# Altium integrated library ISSI SRAM Synchronous SRAM Flow-Through.IntLib: 689 symbols (part 28 of 79)
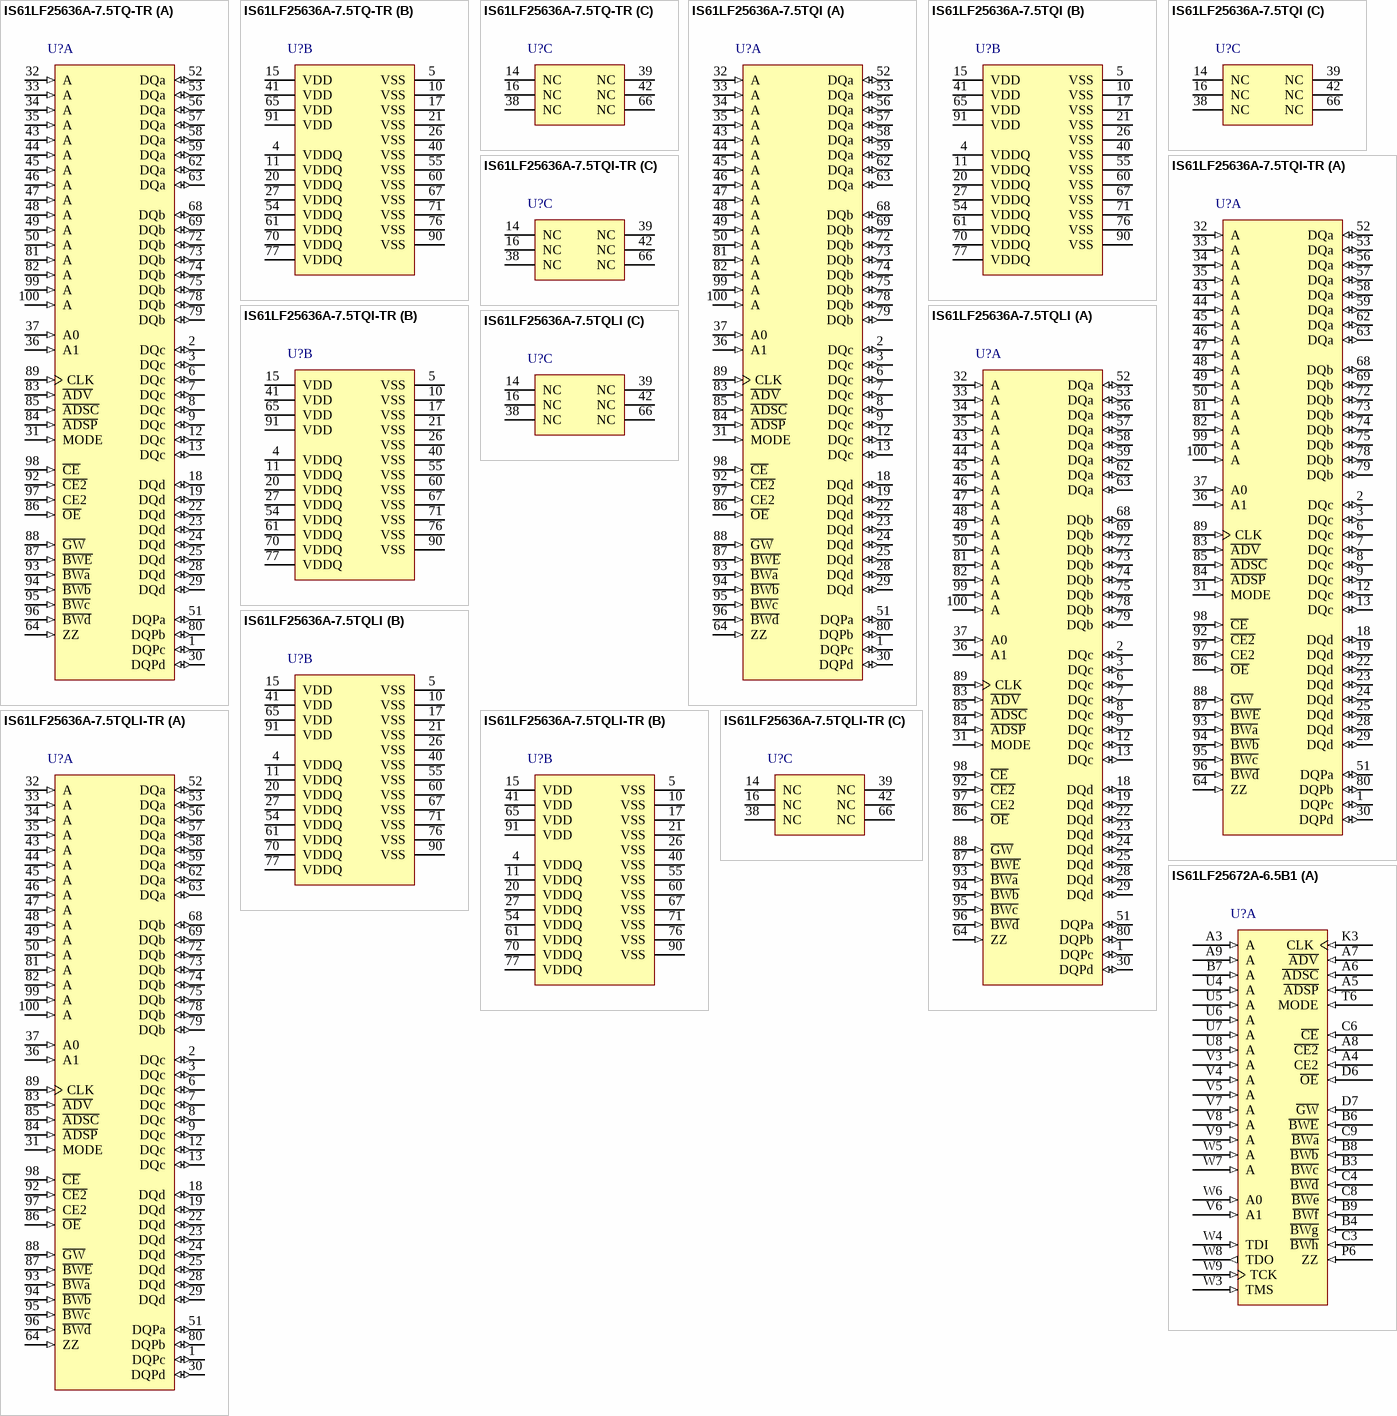
[diagram p162: symbols IS61LF25636A-7.5TQ-TR to IS61LF25672A-6.5B1]

## IS61LF25636A-7.5TQI-TR
designator U?
9 M Synchronous Flow Through SRAM, 256 K x 36, -40 to 85 degC, 100-Pin QFP (TQFP-100); Manufacturer: Integrated Silicon Solution Inc (ISSI); PartNumber: IS61LF25636A-7.5TQI-TR; Density: 9M; Packing: Tape & Reel; Vcc: 3.3 V; VccQ: 2.5 / 3.3 V; DatasheetVersion: Rev. H; PackageVersion: Rev. F, 09/2009; PackageReference: TQFP-100; PackageDescription: 100-Pin 20 x 14 mm LQFP, Pitch 0.65 mm; Supplier 1: Digi-Key; Supplier Part Number 1: IS61LF25636A-7.5TQI-TR-ND; Supplier 2: Mouser; Supplier Part Number 2: 87061LF25636A75TQIT; Organization: 256Kx36; Mounting Technology: Surface Mount; ComponentLink1Description: Manufacturer URL; ComponentLink1URL: http://www.issi.com/US/index.shtml; ComponentLink2Description: Datasheet; ComponentLink2URL: http://www.issi.com/WW/pdf/61VF_LF25636A_51218A.pdf; ComponentLink3Description: Package Specification; ComponentLink3URL: http://www.issi.com/WW/pdf/61VPS_LPS25636A_51218A.pdf
footprint ISSI-TQFP-100-20000X14000DE_N (QFP, 100-Leads, Body 20x14mm, Pitch 0.65mm, IPC Medium Density)
part A pins: 1 DQPc (io) "Parity Data Input/Output", 2 DQc (io) "Synchronous Data Input/Output", 3 DQc (io) "Synchronous Data Input/Output", 6 DQc (io) "Synchronous Data Input/Output", 7 DQc (io) "Synchronous Data Input/Output", 8 DQc (io) "Synchronous Data Input/Output", 9 DQc (io) "Synchronous Data Input/Output", 12 DQc (io) "Synchronous Data Input/Output", 13 DQc (io) "Synchronous Data Input/Output", 18 DQd (io) "Synchronous Data Input/Output", 19 DQd (io) "Synchronous Data Input/Output", 22 DQd (io) "Synchronous Data Input/Output", 23 DQd (io) "Synchronous Data Input/Output", 24 DQd (io) "Synchronous Data Input/Output", 25 DQd (io) "Synchronous Data Input/Output", 28 DQd (io) "Synchronous Data Input/Output", 29 DQd (io) "Synchronous Data Input/Output", 30 DQPd (io) "Parity Data Input/Output", 31 MODE (in) "Burst Sequence Selection", 32 A (in) "Synchronous Address Input", 33 A (in) "Synchronous Address Input", 34 A (in) "Synchronous Address Input", 35 A (in) "Synchronous Address Input", 36 A1 (in) "Synchronous Address Input. These pins must tied to the two LSBs of the address bus", 37 A0 (in) "Synchronous Address Input. These pins must tied to the two LSBs of the address bus", 43 A (in) "Synchronous Address Input", 44 A (in) "Synchronous Address Input", 45 A (in) "Synchronous Address Input", 46 A (in) "Synchronous Address Input", 47 A (in) "Synchronous Address Input", 48 A (in) "Synchronous Address Input", 49 A (in) "Synchronous Address Input", 50 A (in) "Synchronous Address Input", 51 DQPa (io) "Parity Data Input/Output", 52 DQa (io) "Synchronous Data Input/Output", 53 DQa (io) "Synchronous Data Input/Output", 56 DQa (io) "Synchronous Data Input/Output", 57 DQa (io) "Synchronous Data Input/Output", 58 DQa (io) "Synchronous Data Input/Output", 59 DQa (io) "Synchronous Data Input/Output", 62 DQa (io) "Synchronous Data Input/Output", 63 DQa (io) "Synchronous Data Input/Output", 64 ZZ (in) "Snooze Enable", 68 DQb (io) "Synchronous Data Input/Output", 69 DQb (io) "Synchronous Data Input/Output", 72 DQb (io) "Synchronous Data Input/Output", 73 DQb (io) "Synchronous Data Input/Output", 74 DQb (io) "Synchronous Data Input/Output", 75 DQb (io) "Synchronous Data Input/Output", 78 DQb (io) "Synchronous Data Input/Output", 79 DQb (io) "Synchronous Data Input/Output", 80 DQPb (io) "Parity Data Input/Output", 81 A (in) "Synchronous Address Input", 82 A (in) "Synchronous Address Input", 83 ~{ADV} (in) "Synchronous Burst Address Advance", 84 ~{ADSP} (in) "Synchronous Processor Address Status", 85 ~{ADSC} (in) "Synchronous Controller Address Status", 86 ~{OE} (in) "Output Enable", 87 ~{BWE} (in) "Synchronous Byte Write Enable", 88 ~{GW} (in) "Synchronous Global Write Enable", 89 CLK (in) "Synchronous Clock", 92 ~{CE2} (in) "Synchronous Chip Enable", 93 ~{BWa} (in) "Synchronous Byte Write Enable", 94 ~{BWb} (in) "Synchronous Byte Write Enable", 95 ~{BWc} (in) "Synchronous Byte Write Enable", 96 ~{BWd} (in) "Synchronous Byte Write Enable", 97 CE2 (in) "Synchronous Chip Enable", 98 ~{CE} (in) "Synchronous Chip Enable", 99 A (in) "Synchronous Address Input", 100 A (in) "Synchronous Address Input"
part B pins: 4 VDDQ (power) "Isolated Output Buffer Supply: 3.3V/2.5V", 5 VSS (power) "Ground", 10 VSS (power) "Ground", 11 VDDQ (power) "Isolated Output Buffer Supply: 3.3V/2.5V", 15 VDD (power) "3.3V/2.5V Power Supply", 17 VSS (power) "Ground", 20 VDDQ (power) "Isolated Output Buffer Supply: 3.3V/2.5V", 21 VSS (power) "Ground", 26 VSS (power) "Ground", 27 VDDQ (power) "Isolated Output Buffer Supply: 3.3V/2.5V", 40 VSS (power) "Ground", 41 VDD (power) "3.3V/2.5V Power Supply", 54 VDDQ (power) "Isolated Output Buffer Supply: 3.3V/2.5V", 55 VSS (power) "Ground", 60 VSS (power) "Ground", 61 VDDQ (power) "Isolated Output Buffer Supply: 3.3V/2.5V", 65 VDD (power) "3.3V/2.5V Power Supply", 67 VSS (power) "Ground", 70 VDDQ (power) "Isolated Output Buffer Supply: 3.3V/2.5V", 71 VSS (power) "Ground", 76 VSS (power) "Ground", 77 VDDQ (power) "Isolated Output Buffer Supply: 3.3V/2.5V", 90 VSS (power) "Ground", 91 VDD (power) "3.3V/2.5V Power Supply"
part C pins: 14 NC "Not Connected", 16 NC "Not Connected", 38 NC "Not Connected", 39 NC "Not Connected", 42 NC "Not Connected", 66 NC "Not Connected"

## IS61LF25636A-7.5TQLI
designator U?
9 M Synchronous Flow Through SRAM, 256 K x 36, -40 to 85 degC, 100-Pin QFP (TQFP-100), Pb-Free; Manufacturer: Integrated Silicon Solution Inc (ISSI); PartNumber: IS61LF25636A-7.5TQLI; Density: 9M; Packing: Tray / Tube; Vcc: 3.3 V; VccQ: 2.5 / 3.3 V; DatasheetVersion: Rev. H; PackageVersion: Rev. F, 09/2009; PackageReference: TQFP-100; PackageDescription: 100-Pin 20 x 14 mm LQFP, Pitch 0.65 mm; Supplier 1: Digi-Key; Supplier Part Number 1: 706-1093-ND; Supplier 2: Newark; Supplier Part Number 2: 43M5077; Supplier 3: Mouser; Supplier Part Number 3: 87061LF25636A75TQLI; Organization: 256Kx36; RoHS: Pb-Free; Mounting Technology: Surface Mount; ComponentLink1Description: Manufacturer URL; ComponentLink1URL: http://www.issi.com/US/index.shtml; ComponentLink2Description: Datasheet; ComponentLink2URL: http://www.issi.com/WW/pdf/61VF_LF25636A_51218A.pdf; ComponentLink3Description: Package Specification; ComponentLink3URL: http://www.issi.com/WW/pdf/61VPS_LPS25636A_51218A.pdf
footprint ISSI-TQFP-100-20000X14000DE_N (QFP, 100-Leads, Body 20x14mm, Pitch 0.65mm, IPC Medium Density)
part A pins: 1 DQPc (io) "Parity Data Input/Output", 2 DQc (io) "Synchronous Data Input/Output", 3 DQc (io) "Synchronous Data Input/Output", 6 DQc (io) "Synchronous Data Input/Output", 7 DQc (io) "Synchronous Data Input/Output", 8 DQc (io) "Synchronous Data Input/Output", 9 DQc (io) "Synchronous Data Input/Output", 12 DQc (io) "Synchronous Data Input/Output", 13 DQc (io) "Synchronous Data Input/Output", 18 DQd (io) "Synchronous Data Input/Output", 19 DQd (io) "Synchronous Data Input/Output", 22 DQd (io) "Synchronous Data Input/Output", 23 DQd (io) "Synchronous Data Input/Output", 24 DQd (io) "Synchronous Data Input/Output", 25 DQd (io) "Synchronous Data Input/Output", 28 DQd (io) "Synchronous Data Input/Output", 29 DQd (io) "Synchronous Data Input/Output", 30 DQPd (io) "Parity Data Input/Output", 31 MODE (in) "Burst Sequence Selection", 32 A (in) "Synchronous Address Input", 33 A (in) "Synchronous Address Input", 34 A (in) "Synchronous Address Input", 35 A (in) "Synchronous Address Input", 36 A1 (in) "Synchronous Address Input. These pins must tied to the two LSBs of the address bus", 37 A0 (in) "Synchronous Address Input. These pins must tied to the two LSBs of the address bus", 43 A (in) "Synchronous Address Input", 44 A (in) "Synchronous Address Input", 45 A (in) "Synchronous Address Input", 46 A (in) "Synchronous Address Input", 47 A (in) "Synchronous Address Input", 48 A (in) "Synchronous Address Input", 49 A (in) "Synchronous Address Input", 50 A (in) "Synchronous Address Input", 51 DQPa (io) "Parity Data Input/Output", 52 DQa (io) "Synchronous Data Input/Output", 53 DQa (io) "Synchronous Data Input/Output", 56 DQa (io) "Synchronous Data Input/Output", 57 DQa (io) "Synchronous Data Input/Output", 58 DQa (io) "Synchronous Data Input/Output", 59 DQa (io) "Synchronous Data Input/Output", 62 DQa (io) "Synchronous Data Input/Output", 63 DQa (io) "Synchronous Data Input/Output", 64 ZZ (in) "Snooze Enable", 68 DQb (io) "Synchronous Data Input/Output", 69 DQb (io) "Synchronous Data Input/Output", 72 DQb (io) "Synchronous Data Input/Output", 73 DQb (io) "Synchronous Data Input/Output", 74 DQb (io) "Synchronous Data Input/Output", 75 DQb (io) "Synchronous Data Input/Output", 78 DQb (io) "Synchronous Data Input/Output", 79 DQb (io) "Synchronous Data Input/Output", 80 DQPb (io) "Parity Data Input/Output", 81 A (in) "Synchronous Address Input", 82 A (in) "Synchronous Address Input", 83 ~{ADV} (in) "Synchronous Burst Address Advance", 84 ~{ADSP} (in) "Synchronous Processor Address Status", 85 ~{ADSC} (in) "Synchronous Controller Address Status", 86 ~{OE} (in) "Output Enable", 87 ~{BWE} (in) "Synchronous Byte Write Enable", 88 ~{GW} (in) "Synchronous Global Write Enable", 89 CLK (in) "Synchronous Clock", 92 ~{CE2} (in) "Synchronous Chip Enable", 93 ~{BWa} (in) "Synchronous Byte Write Enable", 94 ~{BWb} (in) "Synchronous Byte Write Enable", 95 ~{BWc} (in) "Synchronous Byte Write Enable", 96 ~{BWd} (in) "Synchronous Byte Write Enable", 97 CE2 (in) "Synchronous Chip Enable", 98 ~{CE} (in) "Synchronous Chip Enable", 99 A (in) "Synchronous Address Input", 100 A (in) "Synchronous Address Input"
part B pins: 4 VDDQ (power) "Isolated Output Buffer Supply: 3.3V/2.5V", 5 VSS (power) "Ground", 10 VSS (power) "Ground", 11 VDDQ (power) "Isolated Output Buffer Supply: 3.3V/2.5V", 15 VDD (power) "3.3V/2.5V Power Supply", 17 VSS (power) "Ground", 20 VDDQ (power) "Isolated Output Buffer Supply: 3.3V/2.5V", 21 VSS (power) "Ground", 26 VSS (power) "Ground", 27 VDDQ (power) "Isolated Output Buffer Supply: 3.3V/2.5V", 40 VSS (power) "Ground", 41 VDD (power) "3.3V/2.5V Power Supply", 54 VDDQ (power) "Isolated Output Buffer Supply: 3.3V/2.5V", 55 VSS (power) "Ground", 60 VSS (power) "Ground", 61 VDDQ (power) "Isolated Output Buffer Supply: 3.3V/2.5V", 65 VDD (power) "3.3V/2.5V Power Supply", 67 VSS (power) "Ground", 70 VDDQ (power) "Isolated Output Buffer Supply: 3.3V/2.5V", 71 VSS (power) "Ground", 76 VSS (power) "Ground", 77 VDDQ (power) "Isolated Output Buffer Supply: 3.3V/2.5V", 90 VSS (power) "Ground", 91 VDD (power) "3.3V/2.5V Power Supply"
part C pins: 14 NC "Not Connected", 16 NC "Not Connected", 38 NC "Not Connected", 39 NC "Not Connected", 42 NC "Not Connected", 66 NC "Not Connected"

## IS61LF25636A-7.5TQLI-TR
designator U?
9 M Synchronous Flow Through SRAM, 256 K x 36, -40 to 85 degC, 100-Pin QFP (TQFP-100), Pb-Free; Manufacturer: Integrated Silicon Solution Inc (ISSI); PartNumber: IS61LF25636A-7.5TQLI-TR; Density: 9M; Packing: Tape & Reel; Vcc: 3.3 V; VccQ: 2.5 / 3.3 V; DatasheetVersion: Rev. H; PackageVersion: Rev. F, 09/2009; PackageReference: TQFP-100; PackageDescription: 100-Pin 20 x 14 mm LQFP, Pitch 0.65 mm; Supplier 1: Digi-Key; Supplier Part Number 1: IS61LF25636A-7.5TQLI-TR-ND; Supplier 2: Mouser; Supplier Part Number 2: 87061LF25636A75TQLIT; Organization: 256Kx36; RoHS: Pb-Free; Mounting Technology: Surface Mount; ComponentLink1Description: Manufacturer URL; ComponentLink1URL: http://www.issi.com/US/index.shtml; ComponentLink2Description: Datasheet; ComponentLink2URL: http://www.issi.com/WW/pdf/61VF_LF25636A_51218A.pdf; ComponentLink3Description: Package Specification; ComponentLink3URL: http://www.issi.com/WW/pdf/61VPS_LPS25636A_51218A.pdf
footprint ISSI-TQFP-100-20000X14000DE_N (QFP, 100-Leads, Body 20x14mm, Pitch 0.65mm, IPC Medium Density)
part A pins: 1 DQPc (io) "Parity Data Input/Output", 2 DQc (io) "Synchronous Data Input/Output", 3 DQc (io) "Synchronous Data Input/Output", 6 DQc (io) "Synchronous Data Input/Output", 7 DQc (io) "Synchronous Data Input/Output", 8 DQc (io) "Synchronous Data Input/Output", 9 DQc (io) "Synchronous Data Input/Output", 12 DQc (io) "Synchronous Data Input/Output", 13 DQc (io) "Synchronous Data Input/Output", 18 DQd (io) "Synchronous Data Input/Output", 19 DQd (io) "Synchronous Data Input/Output", 22 DQd (io) "Synchronous Data Input/Output", 23 DQd (io) "Synchronous Data Input/Output", 24 DQd (io) "Synchronous Data Input/Output", 25 DQd (io) "Synchronous Data Input/Output", 28 DQd (io) "Synchronous Data Input/Output", 29 DQd (io) "Synchronous Data Input/Output", 30 DQPd (io) "Parity Data Input/Output", 31 MODE (in) "Burst Sequence Selection", 32 A (in) "Synchronous Address Input", 33 A (in) "Synchronous Address Input", 34 A (in) "Synchronous Address Input", 35 A (in) "Synchronous Address Input", 36 A1 (in) "Synchronous Address Input. These pins must tied to the two LSBs of the address bus", 37 A0 (in) "Synchronous Address Input. These pins must tied to the two LSBs of the address bus", 43 A (in) "Synchronous Address Input", 44 A (in) "Synchronous Address Input", 45 A (in) "Synchronous Address Input", 46 A (in) "Synchronous Address Input", 47 A (in) "Synchronous Address Input", 48 A (in) "Synchronous Address Input", 49 A (in) "Synchronous Address Input", 50 A (in) "Synchronous Address Input", 51 DQPa (io) "Parity Data Input/Output", 52 DQa (io) "Synchronous Data Input/Output", 53 DQa (io) "Synchronous Data Input/Output", 56 DQa (io) "Synchronous Data Input/Output", 57 DQa (io) "Synchronous Data Input/Output", 58 DQa (io) "Synchronous Data Input/Output", 59 DQa (io) "Synchronous Data Input/Output", 62 DQa (io) "Synchronous Data Input/Output", 63 DQa (io) "Synchronous Data Input/Output", 64 ZZ (in) "Snooze Enable", 68 DQb (io) "Synchronous Data Input/Output", 69 DQb (io) "Synchronous Data Input/Output", 72 DQb (io) "Synchronous Data Input/Output", 73 DQb (io) "Synchronous Data Input/Output", 74 DQb (io) "Synchronous Data Input/Output", 75 DQb (io) "Synchronous Data Input/Output", 78 DQb (io) "Synchronous Data Input/Output", 79 DQb (io) "Synchronous Data Input/Output", 80 DQPb (io) "Parity Data Input/Output", 81 A (in) "Synchronous Address Input", 82 A (in) "Synchronous Address Input", 83 ~{ADV} (in) "Synchronous Burst Address Advance", 84 ~{ADSP} (in) "Synchronous Processor Address Status", 85 ~{ADSC} (in) "Synchronous Controller Address Status", 86 ~{OE} (in) "Output Enable", 87 ~{BWE} (in) "Synchronous Byte Write Enable", 88 ~{GW} (in) "Synchronous Global Write Enable", 89 CLK (in) "Synchronous Clock", 92 ~{CE2} (in) "Synchronous Chip Enable", 93 ~{BWa} (in) "Synchronous Byte Write Enable", 94 ~{BWb} (in) "Synchronous Byte Write Enable", 95 ~{BWc} (in) "Synchronous Byte Write Enable", 96 ~{BWd} (in) "Synchronous Byte Write Enable", 97 CE2 (in) "Synchronous Chip Enable", 98 ~{CE} (in) "Synchronous Chip Enable", 99 A (in) "Synchronous Address Input", 100 A (in) "Synchronous Address Input"
part B pins: 4 VDDQ (power) "Isolated Output Buffer Supply: 3.3V/2.5V", 5 VSS (power) "Ground", 10 VSS (power) "Ground", 11 VDDQ (power) "Isolated Output Buffer Supply: 3.3V/2.5V", 15 VDD (power) "3.3V/2.5V Power Supply", 17 VSS (power) "Ground", 20 VDDQ (power) "Isolated Output Buffer Supply: 3.3V/2.5V", 21 VSS (power) "Ground", 26 VSS (power) "Ground", 27 VDDQ (power) "Isolated Output Buffer Supply: 3.3V/2.5V", 40 VSS (power) "Ground", 41 VDD (power) "3.3V/2.5V Power Supply", 54 VDDQ (power) "Isolated Output Buffer Supply: 3.3V/2.5V", 55 VSS (power) "Ground", 60 VSS (power) "Ground", 61 VDDQ (power) "Isolated Output Buffer Supply: 3.3V/2.5V", 65 VDD (power) "3.3V/2.5V Power Supply", 67 VSS (power) "Ground", 70 VDDQ (power) "Isolated Output Buffer Supply: 3.3V/2.5V", 71 VSS (power) "Ground", 76 VSS (power) "Ground", 77 VDDQ (power) "Isolated Output Buffer Supply: 3.3V/2.5V", 90 VSS (power) "Ground", 91 VDD (power) "3.3V/2.5V Power Supply"
part C pins: 14 NC "Not Connected", 16 NC "Not Connected", 38 NC "Not Connected", 39 NC "Not Connected", 42 NC "Not Connected", 66 NC "Not Connected"

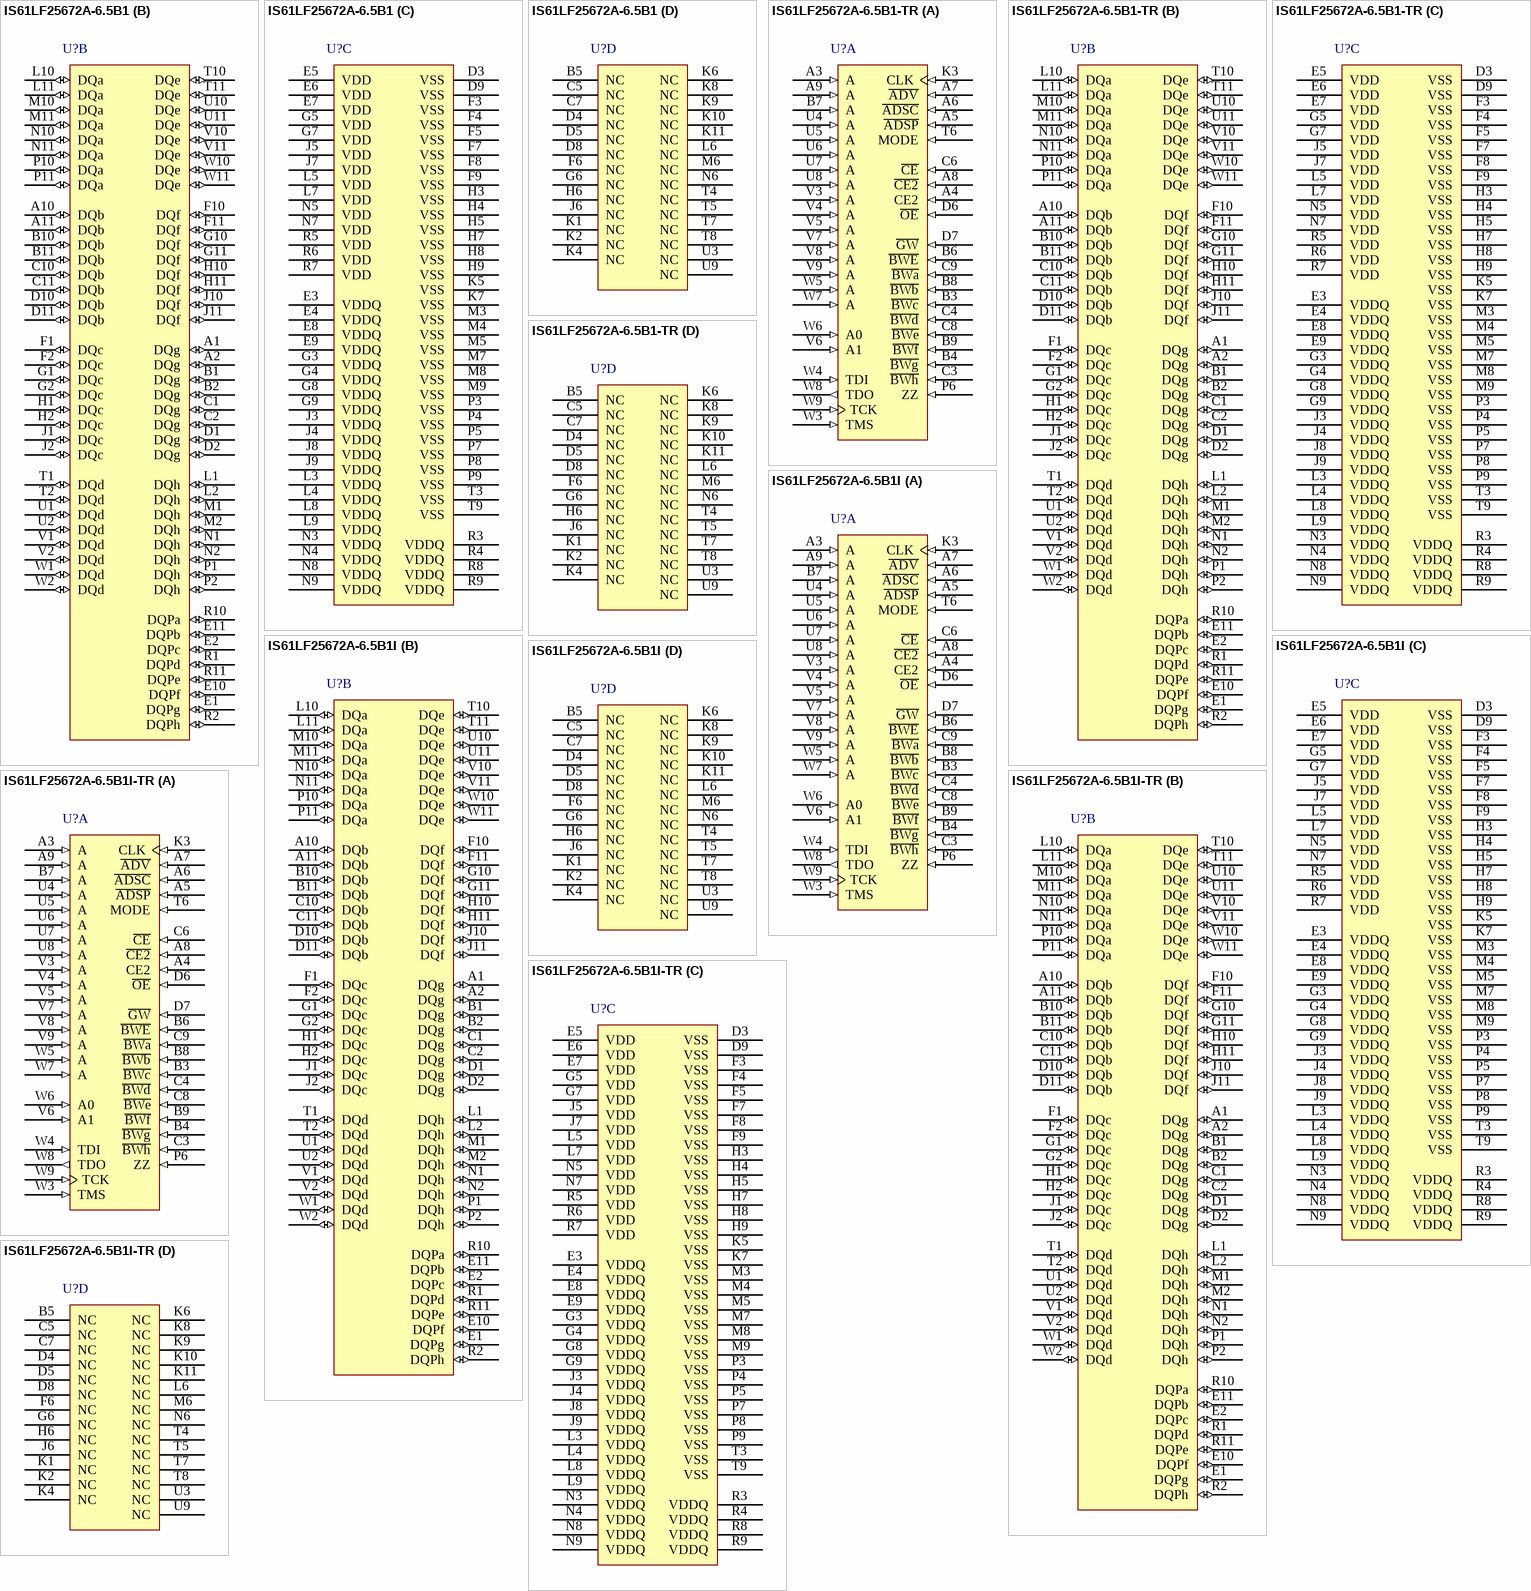
[diagram p48: symbols IS61LF25672A-6.5B1 to IS61LF25672A-6.5B1I-TR]

## IS61LF25672A-6.5B1
designator U?
18 M Synchronous Flow Through SRAM, 256 K x 72, 0 to 70 degC, 209-Pin BGA (LF-BGA-209); Manufacturer: Integrated Silicon Solution Inc (ISSI); PartNumber: IS61LF25672A-6.5B1; Density: 18M; Packing: Tray / Tube; Vcc: 3.3 V; VccQ: 2.5 / 3.3 V; DatasheetVersion: Rev. K; PackageVersion: Rev. B, 12/2007; PackageReference: LF-BGA-209; PackageDescription: 209-Pin 14 x 22 mm LF-BGA, Pitch 1 mm; Organization: 256Kx72; Mounting Technology: Surface Mount; ComponentLink1Description: Manufacturer URL; ComponentLink1URL: http://www.issi.com/US/index.shtml; ComponentLink2Description: Datasheet; ComponentLink2URL: http://www.issi.com/WW/pdf/61VF_LF25672A_51236A_102418A.pdf; ComponentLink3Description: Package Specification; ComponentLink3URL: http://www.issi.com/WW/pdf/61NLF_NVF25672_51236_102418.pdf
footprint ISSI-LF-BGA-209-14000X22000DE (BGA, 209-Balls, Body 22x14mm, Pitch 1mm)
part A pins: A3 A (in) "Address Input", A4 CE2 (in) "Synchronous Chip Select", A5 ~{ADSP} (in) "Address Status Processor", A6 ~{ADSC} (in) "Address Status Controller", A7 ~{ADV} (in) "Synchronous Burst Address Advance", A8 ~{CE2} (in) "Synchronous Chip Select", A9 A (in) "Address Input", B3 ~{BWc} (in) "Synchronous Byte Write Control", B4 ~{BWg} (in) "Synchronous Byte Write Control", B6 ~{BWE} (in) "Byte Write Enable", B7 A (in) "Address Input", B8 ~{BWb} (in) "Synchronous Byte Write Control", B9 ~{BWf} (in) "Synchronous Byte Write Control", C3 ~{BWh} (in) "Synchronous Byte Write Control", C4 ~{BWd} (in) "Synchronous Byte Write Control", C6 ~{CE} (in) "Synchronous Chip Select", C8 ~{BWe} (in) "Synchronous Byte Write Control", C9 ~{BWa} (in) "Synchronous Byte Write Control", D6 ~{OE} (in) "Output Enable", D7 ~{GW} (in) "Global Write Enable", K3 CLK (in) "Synchronous Clock", P6 ZZ (in) "Power Sleep Mode", T6 MODE (in) "Burst Sequence Selection", U4 A (in) "Address Input", U5 A (in) "Address Input", U6 A (in) "Address Input", U7 A (in) "Address Input", U8 A (in) "Address Input", V3 A (in) "Address Input", V4 A (in) "Address Input", V5 A (in) "Address Input", V6 A1 (in) "Synchronous Burst Address Input", V7 A (in) "Address Input", V8 A (in) "Address Input", V9 A (in) "Address Input", W3 TMS (in) "JTAG Pin", W4 TDI (in) "JTAG Pin", W5 A (in) "Address Input", W6 A0 (in) "Synchronous Burst Address Input", W7 A (in) "Address Input", W8 TDO (out) "JTAG Pin", W9 TCK (in) "JTAG Pin"
part B pins: A1 DQg (io) "Data Input/Output", A2 DQg (io) "Data Input/Output", A10 DQb (io) "Data Input/Output", A11 DQb (io) "Data Input/Output", B1 DQg (io) "Data Input/Output", B2 DQg (io) "Data Input/Output", B10 DQb (io) "Data Input/Output", B11 DQb (io) "Data Input/Output", C1 DQg (io) "Data Input/Output", C2 DQg (io) "Data Input/Output", C10 DQb (io) "Data Input/Output", C11 DQb (io) "Data Input/Output", D1 DQg (io) "Data Input/Output", D2 DQg (io) "Data Input/Output", D10 DQb (io) "Data Input/Output", D11 DQb (io) "Data Input/Output", E1 DQPg (io) "Data Input/Output", E2 DQPc (io) "Data Input/Output", E10 DQPf (io) "Data Input/Output", E11 DQPb (io) "Data Input/Output", F1 DQc (io) "Data Input/Output", F2 DQc (io) "Data Input/Output", F10 DQf (io) "Data Input/Output", F11 DQf (io) "Data Input/Output", G1 DQc (io) "Data Input/Output", G2 DQc (io) "Data Input/Output", G10 DQf (io) "Data Input/Output", G11 DQf (io) "Data Input/Output", H1 DQc (io) "Data Input/Output", H2 DQc (io) "Data Input/Output", H10 DQf (io) "Data Input/Output", H11 DQf (io) "Data Input/Output", J1 DQc (io) "Data Input/Output", J2 DQc (io) "Data Input/Output", J10 DQf (io) "Data Input/Output", J11 DQf (io) "Data Input/Output", L1 DQh (io) "Data Input/Output", L2 DQh (io) "Data Input/Output", L10 DQa (io) "Data Input/Output", L11 DQa (io) "Data Input/Output", M1 DQh (io) "Data Input/Output", M2 DQh (io) "Data Input/Output", M10 DQa (io) "Data Input/Output", M11 DQa (io) "Data Input/Output", N1 DQh (io) "Data Input/Output", N2 DQh (io) "Data Input/Output", N10 DQa (io) "Data Input/Output", N11 DQa (io) "Data Input/Output", P1 DQh (io) "Data Input/Output", P2 DQh (io) "Data Input/Output", P10 DQa (io) "Data Input/Output", P11 DQa (io) "Data Input/Output", R1 DQPd (io) "Data Input/Output", R2 DQPh (io) "Data Input/Output", R10 DQPa (io) "Data Input/Output", R11 DQPe (io) "Data Input/Output", T1 DQd (io) "Data Input/Output", T2 DQd (io) "Data Input/Output", T10 DQe (io) "Data Input/Output", T11 DQe (io) "Data Input/Output", U1 DQd (io) "Data Input/Output", U2 DQd (io) "Data Input/Output", U10 DQe (io) "Data Input/Output", U11 DQe (io) "Data Input/Output", V1 DQd (io) "Data Input/Output", V2 DQd (io) "Data Input/Output", V10 DQe (io) "Data Input/Output", V11 DQe (io) "Data Input/Output", W1 DQd (io) "Data Input/Output", W2 DQd (io) "Data Input/Output", W10 DQe (io) "Data Input/Output", W11 DQe (io) "Data Input/Output"
part C pins: D3 VSS (power) "Ground", D9 VSS (power) "Ground", E3 VDDQ (power) "Isolated Output Power Supply 3.3V/2.5V", E4 VDDQ (power) "Isolated Output Power Supply 3.3V/2.5V", E5 VDD (power) "3.3V/2.5V Power Supply", E6 VDD (power) "3.3V/2.5V Power Supply", E7 VDD (power) "3.3V/2.5V Power Supply", E8 VDDQ (power) "Isolated Output Power Supply 3.3V/2.5V", E9 VDDQ (power) "Isolated Output Power Supply 3.3V/2.5V", F3 VSS (power) "Ground", F4 VSS (power) "Ground", F5 VSS (power) "Ground", F7 VSS (power) "Ground", F8 VSS (power) "Ground", F9 VSS (power) "Ground", G3 VDDQ (power) "Isolated Output Power Supply 3.3V/2.5V", G4 VDDQ (power) "Isolated Output Power Supply 3.3V/2.5V", G5 VDD (power) "3.3V/2.5V Power Supply", G7 VDD (power) "3.3V/2.5V Power Supply", G8 VDDQ (power) "Isolated Output Power Supply 3.3V/2.5V", G9 VDDQ (power) "Isolated Output Power Supply 3.3V/2.5V", H3 VSS (power) "Ground", H4 VSS (power) "Ground", H5 VSS (power) "Ground", H7 VSS (power) "Ground", H8 VSS (power) "Ground", H9 VSS (power) "Ground", J3 VDDQ (power) "Isolated Output Power Supply 3.3V/2.5V", J4 VDDQ (power) "Isolated Output Power Supply 3.3V/2.5V", J5 VDD (power) "3.3V/2.5V Power Supply", J7 VDD (power) "3.3V/2.5V Power Supply", J8 VDDQ (power) "Isolated Output Power Supply 3.3V/2.5V", J9 VDDQ (power) "Isolated Output Power Supply 3.3V/2.5V", K5 VSS (power) "Ground", K7 VSS (power) "Ground", L3 VDDQ (power) "Isolated Output Power Supply 3.3V/2.5V", L4 VDDQ (power) "Isolated Output Power Supply 3.3V/2.5V", L5 VDD (power) "3.3V/2.5V Power Supply", L7 VDD (power) "3.3V/2.5V Power Supply", L8 VDDQ (power) "Isolated Output Power Supply 3.3V/2.5V", L9 VDDQ (power) "Isolated Output Power Supply 3.3V/2.5V", M3 VSS (power) "Ground", M4 VSS (power) "Ground", M5 VSS (power) "Ground", M7 VSS (power) "Ground", M8 VSS (power) "Ground", M9 VSS (power) "Ground", N3 VDDQ (power) "Isolated Output Power Supply 3.3V/2.5V", N4 VDDQ (power) "Isolated Output Power Supply 3.3V/2.5V", N5 VDD (power) "3.3V/2.5V Power Supply", N7 VDD (power) "3.3V/2.5V Power Supply", N8 VDDQ (power) "Isolated Output Power Supply 3.3V/2.5V", N9 VDDQ (power) "Isolated Output Power Supply 3.3V/2.5V", P3 VSS (power) "Ground", P4 VSS (power) "Ground", P5 VSS (power) "Ground", P7 VSS (power) "Ground", P8 VSS (power) "Ground", P9 VSS (power) "Ground", R3 VDDQ (power) "Isolated Output Power Supply 3.3V/2.5V", R4 VDDQ (power) "Isolated Output Power Supply 3.3V/2.5V", R5 VDD (power) "3.3V/2.5V Power Supply", R6 VDD (power) "3.3V/2.5V Power Supply", R7 VDD (power) "3.3V/2.5V Power Supply", R8 VDDQ (power) "Isolated Output Power Supply 3.3V/2.5V", R9 VDDQ (power) "Isolated Output Power Supply 3.3V/2.5V", T3 VSS (power) "Ground", T9 VSS (power) "Ground"
part D pins: B5 NC "No Connect", C5 NC "No Connect", C7 NC "No Connect", D4 NC "No Connect", D5 NC "No Connect", D8 NC "No Connect", F6 NC "No Connect", G6 NC "No Connect", H6 NC "No Connect", J6 NC "No Connect", K1 NC "No Connect", K2 NC "No Connect", K4 NC "No Connect", K6 NC "No Connect", K8 NC "No Connect", K9 NC "No Connect", K10 NC "No Connect", K11 NC "No Connect", L6 NC "No Connect", M6 NC "No Connect", N6 NC "No Connect", T4 NC "No Connect", T5 NC "No Connect", T7 NC "No Connect", T8 NC "No Connect", U3 NC "No Connect", U9 NC "No Connect"

## IS61LF25672A-6.5B1-TR
designator U?
18 M Synchronous Flow Through SRAM, 256 K x 72, 0 to 70 degC, 209-Pin BGA (LF-BGA-209); Manufacturer: Integrated Silicon Solution Inc (ISSI); PartNumber: IS61LF25672A-6.5B1-TR; Density: 18M; Packing: Tape & Reel; Vcc: 3.3 V; VccQ: 2.5 / 3.3 V; DatasheetVersion: Rev. K; PackageVersion: Rev. B, 12/2007; PackageReference: LF-BGA-209; PackageDescription: 209-Pin 14 x 22 mm LF-BGA, Pitch 1 mm; Organization: 256Kx72; Mounting Technology: Surface Mount; ComponentLink1Description: Manufacturer URL; ComponentLink1URL: http://www.issi.com/US/index.shtml; ComponentLink2Description: Datasheet; ComponentLink2URL: http://www.issi.com/WW/pdf/61VF_LF25672A_51236A_102418A.pdf; ComponentLink3Description: Package Specification; ComponentLink3URL: http://www.issi.com/WW/pdf/61NLF_NVF25672_51236_102418.pdf
footprint ISSI-LF-BGA-209-14000X22000DE (BGA, 209-Balls, Body 22x14mm, Pitch 1mm)
part A pins: A3 A (in) "Address Input", A4 CE2 (in) "Synchronous Chip Select", A5 ~{ADSP} (in) "Address Status Processor", A6 ~{ADSC} (in) "Address Status Controller", A7 ~{ADV} (in) "Synchronous Burst Address Advance", A8 ~{CE2} (in) "Synchronous Chip Select", A9 A (in) "Address Input", B3 ~{BWc} (in) "Synchronous Byte Write Control", B4 ~{BWg} (in) "Synchronous Byte Write Control", B6 ~{BWE} (in) "Byte Write Enable", B7 A (in) "Address Input", B8 ~{BWb} (in) "Synchronous Byte Write Control", B9 ~{BWf} (in) "Synchronous Byte Write Control", C3 ~{BWh} (in) "Synchronous Byte Write Control", C4 ~{BWd} (in) "Synchronous Byte Write Control", C6 ~{CE} (in) "Synchronous Chip Select", C8 ~{BWe} (in) "Synchronous Byte Write Control", C9 ~{BWa} (in) "Synchronous Byte Write Control", D6 ~{OE} (in) "Output Enable", D7 ~{GW} (in) "Global Write Enable", K3 CLK (in) "Synchronous Clock", P6 ZZ (in) "Power Sleep Mode", T6 MODE (in) "Burst Sequence Selection", U4 A (in) "Address Input", U5 A (in) "Address Input", U6 A (in) "Address Input", U7 A (in) "Address Input", U8 A (in) "Address Input", V3 A (in) "Address Input", V4 A (in) "Address Input", V5 A (in) "Address Input", V6 A1 (in) "Synchronous Burst Address Input", V7 A (in) "Address Input", V8 A (in) "Address Input", V9 A (in) "Address Input", W3 TMS (in) "JTAG Pin", W4 TDI (in) "JTAG Pin", W5 A (in) "Address Input", W6 A0 (in) "Synchronous Burst Address Input", W7 A (in) "Address Input", W8 TDO (out) "JTAG Pin", W9 TCK (in) "JTAG Pin"
part B pins: A1 DQg (io) "Data Input/Output", A2 DQg (io) "Data Input/Output", A10 DQb (io) "Data Input/Output", A11 DQb (io) "Data Input/Output", B1 DQg (io) "Data Input/Output", B2 DQg (io) "Data Input/Output", B10 DQb (io) "Data Input/Output", B11 DQb (io) "Data Input/Output", C1 DQg (io) "Data Input/Output", C2 DQg (io) "Data Input/Output", C10 DQb (io) "Data Input/Output", C11 DQb (io) "Data Input/Output", D1 DQg (io) "Data Input/Output", D2 DQg (io) "Data Input/Output", D10 DQb (io) "Data Input/Output", D11 DQb (io) "Data Input/Output", E1 DQPg (io) "Data Input/Output", E2 DQPc (io) "Data Input/Output", E10 DQPf (io) "Data Input/Output", E11 DQPb (io) "Data Input/Output", F1 DQc (io) "Data Input/Output", F2 DQc (io) "Data Input/Output", F10 DQf (io) "Data Input/Output", F11 DQf (io) "Data Input/Output", G1 DQc (io) "Data Input/Output", G2 DQc (io) "Data Input/Output", G10 DQf (io) "Data Input/Output", G11 DQf (io) "Data Input/Output", H1 DQc (io) "Data Input/Output", H2 DQc (io) "Data Input/Output", H10 DQf (io) "Data Input/Output", H11 DQf (io) "Data Input/Output", J1 DQc (io) "Data Input/Output", J2 DQc (io) "Data Input/Output", J10 DQf (io) "Data Input/Output", J11 DQf (io) "Data Input/Output", L1 DQh (io) "Data Input/Output", L2 DQh (io) "Data Input/Output", L10 DQa (io) "Data Input/Output", L11 DQa (io) "Data Input/Output", M1 DQh (io) "Data Input/Output", M2 DQh (io) "Data Input/Output", M10 DQa (io) "Data Input/Output", M11 DQa (io) "Data Input/Output", N1 DQh (io) "Data Input/Output", N2 DQh (io) "Data Input/Output", N10 DQa (io) "Data Input/Output", N11 DQa (io) "Data Input/Output", P1 DQh (io) "Data Input/Output", P2 DQh (io) "Data Input/Output", P10 DQa (io) "Data Input/Output", P11 DQa (io) "Data Input/Output", R1 DQPd (io) "Data Input/Output", R2 DQPh (io) "Data Input/Output", R10 DQPa (io) "Data Input/Output", R11 DQPe (io) "Data Input/Output", T1 DQd (io) "Data Input/Output", T2 DQd (io) "Data Input/Output", T10 DQe (io) "Data Input/Output", T11 DQe (io) "Data Input/Output", U1 DQd (io) "Data Input/Output", U2 DQd (io) "Data Input/Output", U10 DQe (io) "Data Input/Output", U11 DQe (io) "Data Input/Output", V1 DQd (io) "Data Input/Output", V2 DQd (io) "Data Input/Output", V10 DQe (io) "Data Input/Output", V11 DQe (io) "Data Input/Output", W1 DQd (io) "Data Input/Output", W2 DQd (io) "Data Input/Output", W10 DQe (io) "Data Input/Output", W11 DQe (io) "Data Input/Output"
part C pins: D3 VSS (power) "Ground", D9 VSS (power) "Ground", E3 VDDQ (power) "Isolated Output Power Supply 3.3V/2.5V", E4 VDDQ (power) "Isolated Output Power Supply 3.3V/2.5V", E5 VDD (power) "3.3V/2.5V Power Supply", E6 VDD (power) "3.3V/2.5V Power Supply", E7 VDD (power) "3.3V/2.5V Power Supply", E8 VDDQ (power) "Isolated Output Power Supply 3.3V/2.5V", E9 VDDQ (power) "Isolated Output Power Supply 3.3V/2.5V", F3 VSS (power) "Ground", F4 VSS (power) "Ground", F5 VSS (power) "Ground", F7 VSS (power) "Ground", F8 VSS (power) "Ground", F9 VSS (power) "Ground", G3 VDDQ (power) "Isolated Output Power Supply 3.3V/2.5V", G4 VDDQ (power) "Isolated Output Power Supply 3.3V/2.5V", G5 VDD (power) "3.3V/2.5V Power Supply", G7 VDD (power) "3.3V/2.5V Power Supply", G8 VDDQ (power) "Isolated Output Power Supply 3.3V/2.5V", G9 VDDQ (power) "Isolated Output Power Supply 3.3V/2.5V", H3 VSS (power) "Ground", H4 VSS (power) "Ground", H5 VSS (power) "Ground", H7 VSS (power) "Ground", H8 VSS (power) "Ground", H9 VSS (power) "Ground", J3 VDDQ (power) "Isolated Output Power Supply 3.3V/2.5V", J4 VDDQ (power) "Isolated Output Power Supply 3.3V/2.5V", J5 VDD (power) "3.3V/2.5V Power Supply", J7 VDD (power) "3.3V/2.5V Power Supply", J8 VDDQ (power) "Isolated Output Power Supply 3.3V/2.5V", J9 VDDQ (power) "Isolated Output Power Supply 3.3V/2.5V", K5 VSS (power) "Ground", K7 VSS (power) "Ground", L3 VDDQ (power) "Isolated Output Power Supply 3.3V/2.5V", L4 VDDQ (power) "Isolated Output Power Supply 3.3V/2.5V", L5 VDD (power) "3.3V/2.5V Power Supply", L7 VDD (power) "3.3V/2.5V Power Supply", L8 VDDQ (power) "Isolated Output Power Supply 3.3V/2.5V", L9 VDDQ (power) "Isolated Output Power Supply 3.3V/2.5V", M3 VSS (power) "Ground", M4 VSS (power) "Ground", M5 VSS (power) "Ground", M7 VSS (power) "Ground", M8 VSS (power) "Ground", M9 VSS (power) "Ground", N3 VDDQ (power) "Isolated Output Power Supply 3.3V/2.5V", N4 VDDQ (power) "Isolated Output Power Supply 3.3V/2.5V", N5 VDD (power) "3.3V/2.5V Power Supply", N7 VDD (power) "3.3V/2.5V Power Supply", N8 VDDQ (power) "Isolated Output Power Supply 3.3V/2.5V", N9 VDDQ (power) "Isolated Output Power Supply 3.3V/2.5V", P3 VSS (power) "Ground", P4 VSS (power) "Ground", P5 VSS (power) "Ground", P7 VSS (power) "Ground", P8 VSS (power) "Ground", P9 VSS (power) "Ground", R3 VDDQ (power) "Isolated Output Power Supply 3.3V/2.5V", R4 VDDQ (power) "Isolated Output Power Supply 3.3V/2.5V", R5 VDD (power) "3.3V/2.5V Power Supply", R6 VDD (power) "3.3V/2.5V Power Supply", R7 VDD (power) "3.3V/2.5V Power Supply", R8 VDDQ (power) "Isolated Output Power Supply 3.3V/2.5V", R9 VDDQ (power) "Isolated Output Power Supply 3.3V/2.5V", T3 VSS (power) "Ground", T9 VSS (power) "Ground"
part D pins: B5 NC "No Connect", C5 NC "No Connect", C7 NC "No Connect", D4 NC "No Connect", D5 NC "No Connect", D8 NC "No Connect", F6 NC "No Connect", G6 NC "No Connect", H6 NC "No Connect", J6 NC "No Connect", K1 NC "No Connect", K2 NC "No Connect", K4 NC "No Connect", K6 NC "No Connect", K8 NC "No Connect", K9 NC "No Connect", K10 NC "No Connect", K11 NC "No Connect", L6 NC "No Connect", M6 NC "No Connect", N6 NC "No Connect", T4 NC "No Connect", T5 NC "No Connect", T7 NC "No Connect", T8 NC "No Connect", U3 NC "No Connect", U9 NC "No Connect"

## IS61LF25672A-6.5B1I
designator U?
18 M Synchronous Flow Through SRAM, 256 K x 72, -40 to 85 degC, 209-Pin BGA (LF-BGA-209); Manufacturer: Integrated Silicon Solution Inc (ISSI); PartNumber: IS61LF25672A-6.5B1I; Density: 18M; Packing: Tray / Tube; Vcc: 3.3 V; VccQ: 2.5 / 3.3 V; DatasheetVersion: Rev. K; PackageVersion: Rev. B, 12/2007; PackageReference: LF-BGA-209; PackageDescription: 209-Pin 14 x 22 mm LF-BGA, Pitch 1 mm; Organization: 256Kx72; Mounting Technology: Surface Mount; ComponentLink1Description: Manufacturer URL; ComponentLink1URL: http://www.issi.com/US/index.shtml; ComponentLink2Description: Datasheet; ComponentLink2URL: http://www.issi.com/WW/pdf/61VF_LF25672A_51236A_102418A.pdf; ComponentLink3Description: Package Specification; ComponentLink3URL: http://www.issi.com/WW/pdf/61NLF_NVF25672_51236_102418.pdf
footprint ISSI-LF-BGA-209-14000X22000DE (BGA, 209-Balls, Body 22x14mm, Pitch 1mm)
part A pins: A3 A (in) "Address Input", A4 CE2 (in) "Synchronous Chip Select", A5 ~{ADSP} (in) "Address Status Processor", A6 ~{ADSC} (in) "Address Status Controller", A7 ~{ADV} (in) "Synchronous Burst Address Advance", A8 ~{CE2} (in) "Synchronous Chip Select", A9 A (in) "Address Input", B3 ~{BWc} (in) "Synchronous Byte Write Control", B4 ~{BWg} (in) "Synchronous Byte Write Control", B6 ~{BWE} (in) "Byte Write Enable", B7 A (in) "Address Input", B8 ~{BWb} (in) "Synchronous Byte Write Control", B9 ~{BWf} (in) "Synchronous Byte Write Control", C3 ~{BWh} (in) "Synchronous Byte Write Control", C4 ~{BWd} (in) "Synchronous Byte Write Control", C6 ~{CE} (in) "Synchronous Chip Select", C8 ~{BWe} (in) "Synchronous Byte Write Control", C9 ~{BWa} (in) "Synchronous Byte Write Control", D6 ~{OE} (in) "Output Enable", D7 ~{GW} (in) "Global Write Enable", K3 CLK (in) "Synchronous Clock", P6 ZZ (in) "Power Sleep Mode", T6 MODE (in) "Burst Sequence Selection", U4 A (in) "Address Input", U5 A (in) "Address Input", U6 A (in) "Address Input", U7 A (in) "Address Input", U8 A (in) "Address Input", V3 A (in) "Address Input", V4 A (in) "Address Input", V5 A (in) "Address Input", V6 A1 (in) "Synchronous Burst Address Input", V7 A (in) "Address Input", V8 A (in) "Address Input", V9 A (in) "Address Input", W3 TMS (in) "JTAG Pin", W4 TDI (in) "JTAG Pin", W5 A (in) "Address Input", W6 A0 (in) "Synchronous Burst Address Input", W7 A (in) "Address Input", W8 TDO (out) "JTAG Pin", W9 TCK (in) "JTAG Pin"
part B pins: A1 DQg (io) "Data Input/Output", A2 DQg (io) "Data Input/Output", A10 DQb (io) "Data Input/Output", A11 DQb (io) "Data Input/Output", B1 DQg (io) "Data Input/Output", B2 DQg (io) "Data Input/Output", B10 DQb (io) "Data Input/Output", B11 DQb (io) "Data Input/Output", C1 DQg (io) "Data Input/Output", C2 DQg (io) "Data Input/Output", C10 DQb (io) "Data Input/Output", C11 DQb (io) "Data Input/Output", D1 DQg (io) "Data Input/Output", D2 DQg (io) "Data Input/Output", D10 DQb (io) "Data Input/Output", D11 DQb (io) "Data Input/Output", E1 DQPg (io) "Data Input/Output", E2 DQPc (io) "Data Input/Output", E10 DQPf (io) "Data Input/Output", E11 DQPb (io) "Data Input/Output", F1 DQc (io) "Data Input/Output", F2 DQc (io) "Data Input/Output", F10 DQf (io) "Data Input/Output", F11 DQf (io) "Data Input/Output", G1 DQc (io) "Data Input/Output", G2 DQc (io) "Data Input/Output", G10 DQf (io) "Data Input/Output", G11 DQf (io) "Data Input/Output", H1 DQc (io) "Data Input/Output", H2 DQc (io) "Data Input/Output", H10 DQf (io) "Data Input/Output", H11 DQf (io) "Data Input/Output", J1 DQc (io) "Data Input/Output", J2 DQc (io) "Data Input/Output", J10 DQf (io) "Data Input/Output", J11 DQf (io) "Data Input/Output", L1 DQh (io) "Data Input/Output", L2 DQh (io) "Data Input/Output", L10 DQa (io) "Data Input/Output", L11 DQa (io) "Data Input/Output", M1 DQh (io) "Data Input/Output", M2 DQh (io) "Data Input/Output", M10 DQa (io) "Data Input/Output", M11 DQa (io) "Data Input/Output", N1 DQh (io) "Data Input/Output", N2 DQh (io) "Data Input/Output", N10 DQa (io) "Data Input/Output", N11 DQa (io) "Data Input/Output", P1 DQh (io) "Data Input/Output", P2 DQh (io) "Data Input/Output", P10 DQa (io) "Data Input/Output", P11 DQa (io) "Data Input/Output", R1 DQPd (io) "Data Input/Output", R2 DQPh (io) "Data Input/Output", R10 DQPa (io) "Data Input/Output", R11 DQPe (io) "Data Input/Output", T1 DQd (io) "Data Input/Output", T2 DQd (io) "Data Input/Output", T10 DQe (io) "Data Input/Output", T11 DQe (io) "Data Input/Output", U1 DQd (io) "Data Input/Output", U2 DQd (io) "Data Input/Output", U10 DQe (io) "Data Input/Output", U11 DQe (io) "Data Input/Output", V1 DQd (io) "Data Input/Output", V2 DQd (io) "Data Input/Output", V10 DQe (io) "Data Input/Output", V11 DQe (io) "Data Input/Output", W1 DQd (io) "Data Input/Output", W2 DQd (io) "Data Input/Output", W10 DQe (io) "Data Input/Output", W11 DQe (io) "Data Input/Output"
part C pins: D3 VSS (power) "Ground", D9 VSS (power) "Ground", E3 VDDQ (power) "Isolated Output Power Supply 3.3V/2.5V", E4 VDDQ (power) "Isolated Output Power Supply 3.3V/2.5V", E5 VDD (power) "3.3V/2.5V Power Supply", E6 VDD (power) "3.3V/2.5V Power Supply", E7 VDD (power) "3.3V/2.5V Power Supply", E8 VDDQ (power) "Isolated Output Power Supply 3.3V/2.5V", E9 VDDQ (power) "Isolated Output Power Supply 3.3V/2.5V", F3 VSS (power) "Ground", F4 VSS (power) "Ground", F5 VSS (power) "Ground", F7 VSS (power) "Ground", F8 VSS (power) "Ground", F9 VSS (power) "Ground", G3 VDDQ (power) "Isolated Output Power Supply 3.3V/2.5V", G4 VDDQ (power) "Isolated Output Power Supply 3.3V/2.5V", G5 VDD (power) "3.3V/2.5V Power Supply", G7 VDD (power) "3.3V/2.5V Power Supply", G8 VDDQ (power) "Isolated Output Power Supply 3.3V/2.5V", G9 VDDQ (power) "Isolated Output Power Supply 3.3V/2.5V", H3 VSS (power) "Ground", H4 VSS (power) "Ground", H5 VSS (power) "Ground", H7 VSS (power) "Ground", H8 VSS (power) "Ground", H9 VSS (power) "Ground", J3 VDDQ (power) "Isolated Output Power Supply 3.3V/2.5V", J4 VDDQ (power) "Isolated Output Power Supply 3.3V/2.5V", J5 VDD (power) "3.3V/2.5V Power Supply", J7 VDD (power) "3.3V/2.5V Power Supply", J8 VDDQ (power) "Isolated Output Power Supply 3.3V/2.5V", J9 VDDQ (power) "Isolated Output Power Supply 3.3V/2.5V", K5 VSS (power) "Ground", K7 VSS (power) "Ground", L3 VDDQ (power) "Isolated Output Power Supply 3.3V/2.5V", L4 VDDQ (power) "Isolated Output Power Supply 3.3V/2.5V", L5 VDD (power) "3.3V/2.5V Power Supply", L7 VDD (power) "3.3V/2.5V Power Supply", L8 VDDQ (power) "Isolated Output Power Supply 3.3V/2.5V", L9 VDDQ (power) "Isolated Output Power Supply 3.3V/2.5V", M3 VSS (power) "Ground", M4 VSS (power) "Ground", M5 VSS (power) "Ground", M7 VSS (power) "Ground", M8 VSS (power) "Ground", M9 VSS (power) "Ground", N3 VDDQ (power) "Isolated Output Power Supply 3.3V/2.5V", N4 VDDQ (power) "Isolated Output Power Supply 3.3V/2.5V", N5 VDD (power) "3.3V/2.5V Power Supply", N7 VDD (power) "3.3V/2.5V Power Supply", N8 VDDQ (power) "Isolated Output Power Supply 3.3V/2.5V", N9 VDDQ (power) "Isolated Output Power Supply 3.3V/2.5V", P3 VSS (power) "Ground", P4 VSS (power) "Ground", P5 VSS (power) "Ground", P7 VSS (power) "Ground", P8 VSS (power) "Ground", P9 VSS (power) "Ground", R3 VDDQ (power) "Isolated Output Power Supply 3.3V/2.5V", R4 VDDQ (power) "Isolated Output Power Supply 3.3V/2.5V", R5 VDD (power) "3.3V/2.5V Power Supply", R6 VDD (power) "3.3V/2.5V Power Supply", R7 VDD (power) "3.3V/2.5V Power Supply", R8 VDDQ (power) "Isolated Output Power Supply 3.3V/2.5V", R9 VDDQ (power) "Isolated Output Power Supply 3.3V/2.5V", T3 VSS (power) "Ground", T9 VSS (power) "Ground"
part D pins: B5 NC "No Connect", C5 NC "No Connect", C7 NC "No Connect", D4 NC "No Connect", D5 NC "No Connect", D8 NC "No Connect", F6 NC "No Connect", G6 NC "No Connect", H6 NC "No Connect", J6 NC "No Connect", K1 NC "No Connect", K2 NC "No Connect", K4 NC "No Connect", K6 NC "No Connect", K8 NC "No Connect", K9 NC "No Connect", K10 NC "No Connect", K11 NC "No Connect", L6 NC "No Connect", M6 NC "No Connect", N6 NC "No Connect", T4 NC "No Connect", T5 NC "No Connect", T7 NC "No Connect", T8 NC "No Connect", U3 NC "No Connect", U9 NC "No Connect"

## IS61LF25672A-6.5B1I-TR
designator U?
18 M Synchronous Flow Through SRAM, 256 K x 72, -40 to 85 degC, 209-Pin BGA (LF-BGA-209); Manufacturer: Integrated Silicon Solution Inc (ISSI); PartNumber: IS61LF25672A-6.5B1I-TR; Density: 18M; Packing: Tape & Reel; Vcc: 3.3 V; VccQ: 2.5 / 3.3 V; DatasheetVersion: Rev. K; PackageVersion: Rev. B, 12/2007; PackageReference: LF-BGA-209; PackageDescription: 209-Pin 14 x 22 mm LF-BGA, Pitch 1 mm; Organization: 256Kx72; Mounting Technology: Surface Mount; ComponentLink1Description: Manufacturer URL; ComponentLink1URL: http://www.issi.com/US/index.shtml; ComponentLink2Description: Datasheet; ComponentLink2URL: http://www.issi.com/WW/pdf/61VF_LF25672A_51236A_102418A.pdf; ComponentLink3Description: Package Specification; ComponentLink3URL: http://www.issi.com/WW/pdf/61NLF_NVF25672_51236_102418.pdf
footprint ISSI-LF-BGA-209-14000X22000DE (BGA, 209-Balls, Body 22x14mm, Pitch 1mm)
part A pins: A3 A (in) "Address Input", A4 CE2 (in) "Synchronous Chip Select", A5 ~{ADSP} (in) "Address Status Processor", A6 ~{ADSC} (in) "Address Status Controller", A7 ~{ADV} (in) "Synchronous Burst Address Advance", A8 ~{CE2} (in) "Synchronous Chip Select", A9 A (in) "Address Input", B3 ~{BWc} (in) "Synchronous Byte Write Control", B4 ~{BWg} (in) "Synchronous Byte Write Control", B6 ~{BWE} (in) "Byte Write Enable", B7 A (in) "Address Input", B8 ~{BWb} (in) "Synchronous Byte Write Control", B9 ~{BWf} (in) "Synchronous Byte Write Control", C3 ~{BWh} (in) "Synchronous Byte Write Control", C4 ~{BWd} (in) "Synchronous Byte Write Control", C6 ~{CE} (in) "Synchronous Chip Select", C8 ~{BWe} (in) "Synchronous Byte Write Control", C9 ~{BWa} (in) "Synchronous Byte Write Control", D6 ~{OE} (in) "Output Enable", D7 ~{GW} (in) "Global Write Enable", K3 CLK (in) "Synchronous Clock", P6 ZZ (in) "Power Sleep Mode", T6 MODE (in) "Burst Sequence Selection", U4 A (in) "Address Input", U5 A (in) "Address Input", U6 A (in) "Address Input", U7 A (in) "Address Input", U8 A (in) "Address Input", V3 A (in) "Address Input", V4 A (in) "Address Input", V5 A (in) "Address Input", V6 A1 (in) "Synchronous Burst Address Input", V7 A (in) "Address Input", V8 A (in) "Address Input", V9 A (in) "Address Input", W3 TMS (in) "JTAG Pin", W4 TDI (in) "JTAG Pin", W5 A (in) "Address Input", W6 A0 (in) "Synchronous Burst Address Input", W7 A (in) "Address Input", W8 TDO (out) "JTAG Pin", W9 TCK (in) "JTAG Pin"
part B pins: A1 DQg (io) "Data Input/Output", A2 DQg (io) "Data Input/Output", A10 DQb (io) "Data Input/Output", A11 DQb (io) "Data Input/Output", B1 DQg (io) "Data Input/Output", B2 DQg (io) "Data Input/Output", B10 DQb (io) "Data Input/Output", B11 DQb (io) "Data Input/Output", C1 DQg (io) "Data Input/Output", C2 DQg (io) "Data Input/Output", C10 DQb (io) "Data Input/Output", C11 DQb (io) "Data Input/Output", D1 DQg (io) "Data Input/Output", D2 DQg (io) "Data Input/Output", D10 DQb (io) "Data Input/Output", D11 DQb (io) "Data Input/Output", E1 DQPg (io) "Data Input/Output", E2 DQPc (io) "Data Input/Output", E10 DQPf (io) "Data Input/Output", E11 DQPb (io) "Data Input/Output", F1 DQc (io) "Data Input/Output", F2 DQc (io) "Data Input/Output", F10 DQf (io) "Data Input/Output", F11 DQf (io) "Data Input/Output", G1 DQc (io) "Data Input/Output", G2 DQc (io) "Data Input/Output", G10 DQf (io) "Data Input/Output", G11 DQf (io) "Data Input/Output", H1 DQc (io) "Data Input/Output", H2 DQc (io) "Data Input/Output", H10 DQf (io) "Data Input/Output", H11 DQf (io) "Data Input/Output", J1 DQc (io) "Data Input/Output", J2 DQc (io) "Data Input/Output", J10 DQf (io) "Data Input/Output", J11 DQf (io) "Data Input/Output", L1 DQh (io) "Data Input/Output", L2 DQh (io) "Data Input/Output", L10 DQa (io) "Data Input/Output", L11 DQa (io) "Data Input/Output", M1 DQh (io) "Data Input/Output", M2 DQh (io) "Data Input/Output", M10 DQa (io) "Data Input/Output", M11 DQa (io) "Data Input/Output", N1 DQh (io) "Data Input/Output", N2 DQh (io) "Data Input/Output", N10 DQa (io) "Data Input/Output", N11 DQa (io) "Data Input/Output", P1 DQh (io) "Data Input/Output", P2 DQh (io) "Data Input/Output", P10 DQa (io) "Data Input/Output", P11 DQa (io) "Data Input/Output", R1 DQPd (io) "Data Input/Output", R2 DQPh (io) "Data Input/Output", R10 DQPa (io) "Data Input/Output", R11 DQPe (io) "Data Input/Output", T1 DQd (io) "Data Input/Output", T2 DQd (io) "Data Input/Output", T10 DQe (io) "Data Input/Output", T11 DQe (io) "Data Input/Output", U1 DQd (io) "Data Input/Output", U2 DQd (io) "Data Input/Output", U10 DQe (io) "Data Input/Output", U11 DQe (io) "Data Input/Output", V1 DQd (io) "Data Input/Output", V2 DQd (io) "Data Input/Output", V10 DQe (io) "Data Input/Output", V11 DQe (io) "Data Input/Output", W1 DQd (io) "Data Input/Output", W2 DQd (io) "Data Input/Output", W10 DQe (io) "Data Input/Output", W11 DQe (io) "Data Input/Output"
part C pins: D3 VSS (power) "Ground", D9 VSS (power) "Ground", E3 VDDQ (power) "Isolated Output Power Supply 3.3V/2.5V", E4 VDDQ (power) "Isolated Output Power Supply 3.3V/2.5V", E5 VDD (power) "3.3V/2.5V Power Supply", E6 VDD (power) "3.3V/2.5V Power Supply", E7 VDD (power) "3.3V/2.5V Power Supply", E8 VDDQ (power) "Isolated Output Power Supply 3.3V/2.5V", E9 VDDQ (power) "Isolated Output Power Supply 3.3V/2.5V", F3 VSS (power) "Ground", F4 VSS (power) "Ground", F5 VSS (power) "Ground", F7 VSS (power) "Ground", F8 VSS (power) "Ground", F9 VSS (power) "Ground", G3 VDDQ (power) "Isolated Output Power Supply 3.3V/2.5V", G4 VDDQ (power) "Isolated Output Power Supply 3.3V/2.5V", G5 VDD (power) "3.3V/2.5V Power Supply", G7 VDD (power) "3.3V/2.5V Power Supply", G8 VDDQ (power) "Isolated Output Power Supply 3.3V/2.5V", G9 VDDQ (power) "Isolated Output Power Supply 3.3V/2.5V", H3 VSS (power) "Ground", H4 VSS (power) "Ground", H5 VSS (power) "Ground", H7 VSS (power) "Ground", H8 VSS (power) "Ground", H9 VSS (power) "Ground", J3 VDDQ (power) "Isolated Output Power Supply 3.3V/2.5V", J4 VDDQ (power) "Isolated Output Power Supply 3.3V/2.5V", J5 VDD (power) "3.3V/2.5V Power Supply", J7 VDD (power) "3.3V/2.5V Power Supply", J8 VDDQ (power) "Isolated Output Power Supply 3.3V/2.5V", J9 VDDQ (power) "Isolated Output Power Supply 3.3V/2.5V", K5 VSS (power) "Ground", K7 VSS (power) "Ground", L3 VDDQ (power) "Isolated Output Power Supply 3.3V/2.5V", L4 VDDQ (power) "Isolated Output Power Supply 3.3V/2.5V", L5 VDD (power) "3.3V/2.5V Power Supply", L7 VDD (power) "3.3V/2.5V Power Supply", L8 VDDQ (power) "Isolated Output Power Supply 3.3V/2.5V", L9 VDDQ (power) "Isolated Output Power Supply 3.3V/2.5V", M3 VSS (power) "Ground", M4 VSS (power) "Ground", M5 VSS (power) "Ground", M7 VSS (power) "Ground", M8 VSS (power) "Ground", M9 VSS (power) "Ground", N3 VDDQ (power) "Isolated Output Power Supply 3.3V/2.5V", N4 VDDQ (power) "Isolated Output Power Supply 3.3V/2.5V", N5 VDD (power) "3.3V/2.5V Power Supply", N7 VDD (power) "3.3V/2.5V Power Supply", N8 VDDQ (power) "Isolated Output Power Supply 3.3V/2.5V", N9 VDDQ (power) "Isolated Output Power Supply 3.3V/2.5V", P3 VSS (power) "Ground", P4 VSS (power) "Ground", P5 VSS (power) "Ground", P7 VSS (power) "Ground", P8 VSS (power) "Ground", P9 VSS (power) "Ground", R3 VDDQ (power) "Isolated Output Power Supply 3.3V/2.5V", R4 VDDQ (power) "Isolated Output Power Supply 3.3V/2.5V", R5 VDD (power) "3.3V/2.5V Power Supply", R6 VDD (power) "3.3V/2.5V Power Supply", R7 VDD (power) "3.3V/2.5V Power Supply", R8 VDDQ (power) "Isolated Output Power Supply 3.3V/2.5V", R9 VDDQ (power) "Isolated Output Power Supply 3.3V/2.5V", T3 VSS (power) "Ground", T9 VSS (power) "Ground"
part D pins: B5 NC "No Connect", C5 NC "No Connect", C7 NC "No Connect", D4 NC "No Connect", D5 NC "No Connect", D8 NC "No Connect", F6 NC "No Connect", G6 NC "No Connect", H6 NC "No Connect", J6 NC "No Connect", K1 NC "No Connect", K2 NC "No Connect", K4 NC "No Connect", K6 NC "No Connect", K8 NC "No Connect", K9 NC "No Connect", K10 NC "No Connect", K11 NC "No Connect", L6 NC "No Connect", M6 NC "No Connect", N6 NC "No Connect", T4 NC "No Connect", T5 NC "No Connect", T7 NC "No Connect", T8 NC "No Connect", U3 NC "No Connect", U9 NC "No Connect"

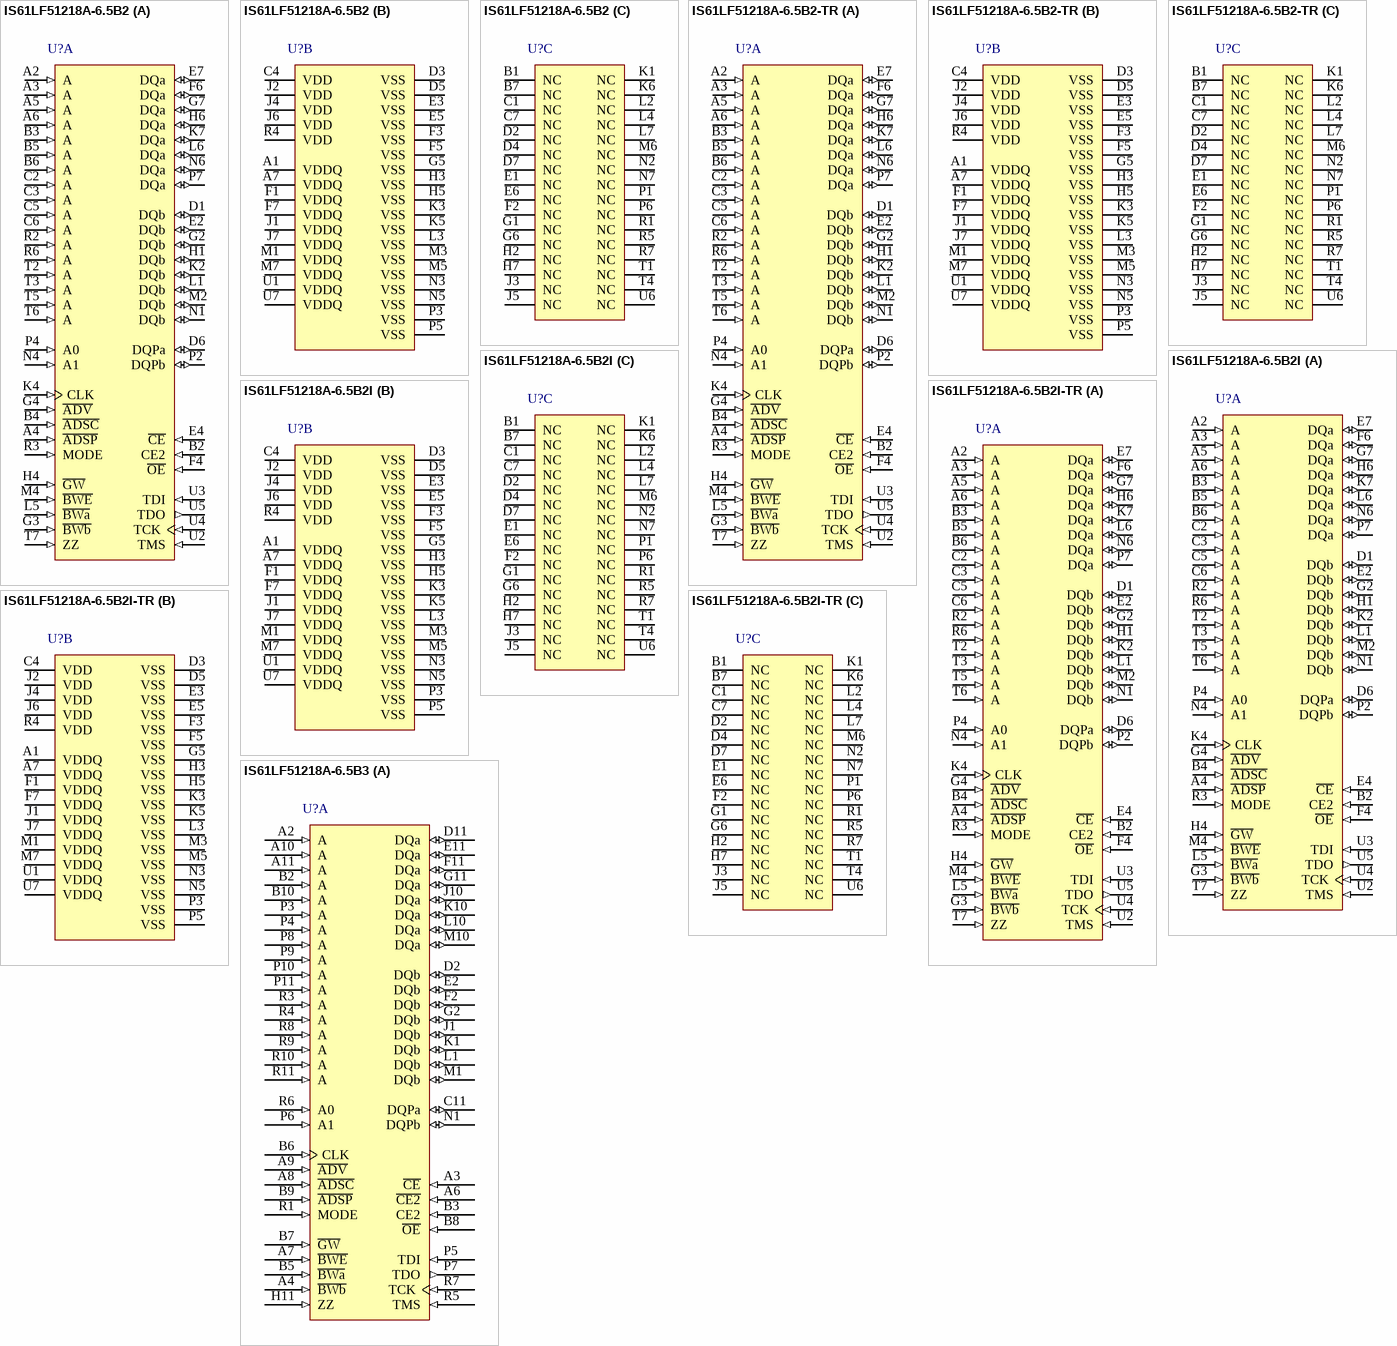
[diagram p49: symbols IS61LF51218A-6.5B2 to IS61LF51218A-6.5B3]